# Altium schematic symbol library DMN53D0LDW.SchLib: 1 symbol
Pins are listed as number, name and electrical type; pins without a type are passive.

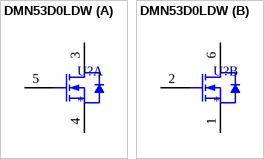
[diagram p0: symbol DMN53D0LDW]

## DMN53D0LDW
designator U?
Value: *
part A pins: 3 D, 4 S, 5 G
part B pins: 1 S, 2 G, 6 D